# EAGLE library part STM32F072CB (library pimoroni-ics)
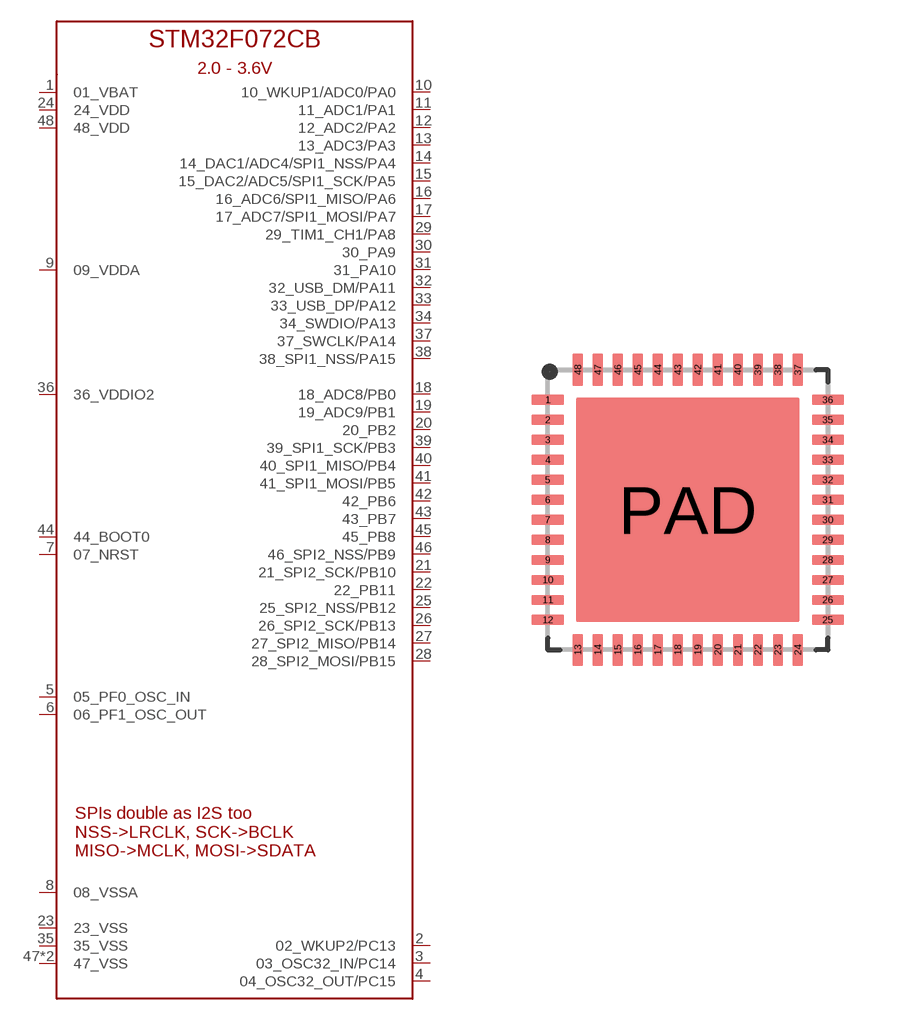
[diagram p100: symbol with the pads of UFQFN48-0.5MM; footprint UFQFN48-0.5MM]

Designator prefix U

## STM32F072CB  [UFQFN48-0.5MM]
1  01_VBAT
2  02_WKUP2/PC13
3  03_OSC32_IN/PC14
4  04_OSC32_OUT/PC15
5  05_PF0_OSC_IN
6  06_PF1_OSC_OUT
7  07_NRST
8  08_VSSA
9  09_VDDA
10  10_WKUP1/ADC0/PA0
11  11_ADC1/PA1
12  12_ADC2/PA2
13  13_ADC3/PA3
14  14_DAC1/ADC4/SPI1_NSS/PA4
15  15_DAC2/ADC5/SPI1_SCK/PA5
16  16_ADC6/SPI1_MISO/PA6
17  17_ADC7/SPI1_MOSI/PA7
18  18_ADC8/PB0
19  19_ADC9/PB1
20  20_PB2
21  21_SPI2_SCK/PB10
22  22_PB11
23  23_VSS
24  24_VDD
25  25_SPI2_NSS/PB12
26  26_SPI2_SCK/PB13
27  27_SPI2_MISO/PB14
28  28_SPI2_MOSI/PB15
29  29_TIM1_CH1/PA8
30  30_PA9
31  31_PA10
32  32_USB_DM/PA11
33  33_USB_DP/PA12
34  34_SWDIO/PA13
35  35_VSS
36  36_VDDIO2
37  37_SWCLK/PA14
38  38_SPI1_NSS/PA15
39  39_SPI1_SCK/PB3
40  40_SPI1_MISO/PB4
41  41_SPI1_MOSI/PB5
42  42_PB6
43  43_PB7
44  44_BOOT0
45  45_PB8
46  46_SPI2_NSS/PB9
47  47_VSS
48  48_VDD
PAD  47_VSS

## Footprint UFQFN48-0.5MM (pad centres in mm)
smd 0.8 x 0.25: 1 -3.5,2.75; 2 -3.5,2.25; 3 -3.5,1.75; 4 -3.5,1.25; 5 -3.5,0.75; 6 -3.5,0.25; 7 -3.5,-0.25; 8 -3.5,-0.75; 9 -3.5,-1.25; 10 -3.5,-1.75; 11 -3.5,-2.25; 12 -3.5,-2.75; 25 3.5,-2.75; 26 3.5,-2.25; 27 3.5,-1.75; 28 3.5,-1.25; 29 3.5,-0.75; 30 3.5,-0.25; 31 3.5,0.25; 32 3.5,0.75; 33 3.5,1.25; 34 3.5,1.75; 35 3.5,2.25; 36 3.5,2.75
smd 0.25 x 0.8: 13 -2.75,-3.5; 14 -2.25,-3.5; 15 -1.75,-3.5; 16 -1.25,-3.5; 17 -0.75,-3.5; 18 -0.25,-3.5; 19 0.25,-3.5; 20 0.75,-3.5; 21 1.25,-3.5; 22 1.75,-3.5; 23 2.25,-3.5; 24 2.75,-3.5; 37 2.75,3.5; 38 2.25,3.5; 39 1.75,3.5; 40 1.25,3.5; 41 0.75,3.5; 42 0.25,3.5; 43 -0.25,3.5; 44 -0.75,3.5; 45 -1.25,3.5; 46 -1.75,3.5; 47 -2.25,3.5; 48 -2.75,3.5
smd 5.6 x 5.6: PAD 0,0